# Altium schematic symbol library SCH - OPAMP - MICROCHIP MCP6V92T-E-MNY.SCHLIB: 1 symbol
Pins are listed as number, name and electrical type; pins without a type are passive.

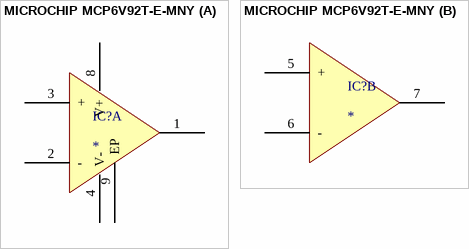
[diagram p0: symbol MICROCHIP MCP6V92T-E-MNY]

## MICROCHIP MCP6V92T-E-MNY
designator IC?
part A pins: 1 OUT, 2 -, 3 +, 4 V-, 8 V+, 9 EP
part B pins: 5 +, 6 -, 7 OUT